# Altium footprint library EVQ-Q2U03W.PcbLib: 1 footprints
Each footprint in its own frame and in the unit in brackets; x right, y up, seen from the top. Pads: shape width x height; smd on the part's side, far side on the other; paste and mask are expansions set on the pad; w line width, h text height; cw(c..) or ccw(c..) is an arc to the next point about the centre after c.
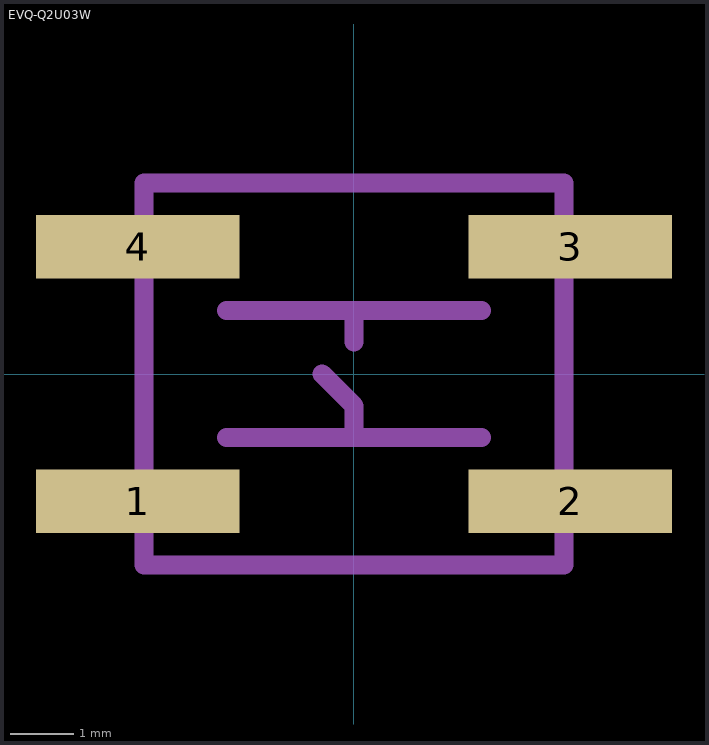
[diagram p0: the footprint, top view; thin cyan lines are the x and y axes]

## EVQ-Q2U03W [mm]
pads (4):
  rect 3.2x1 smd: 1(-3.4,-2) 2(3.4,-2) 3(3.4,2) 4(-3.4,2)
Mechanical 1:
  lines w0.3: -2,-1 2,-1 ; -2,1 2,1 ; -0.5,0 0,-0.5 0,-1 ; 0,0.5 0,1 ; -3.3,-3 3.3,-3 3.3,3 -3.3,3 -3.3,-3